# Altium footprint library 238pins_PcbLib1.PcbLib: 27 footprints (part 2 of 2)
Each footprint in its own frame and in the unit in brackets; x right, y up, seen from the top. Pads: shape width x height; smd on the part's side, far side on the other; paste and mask are expansions set on the pad; w line width, h text height; cw(c..) or ccw(c..) is an arc to the next point about the centre after c.
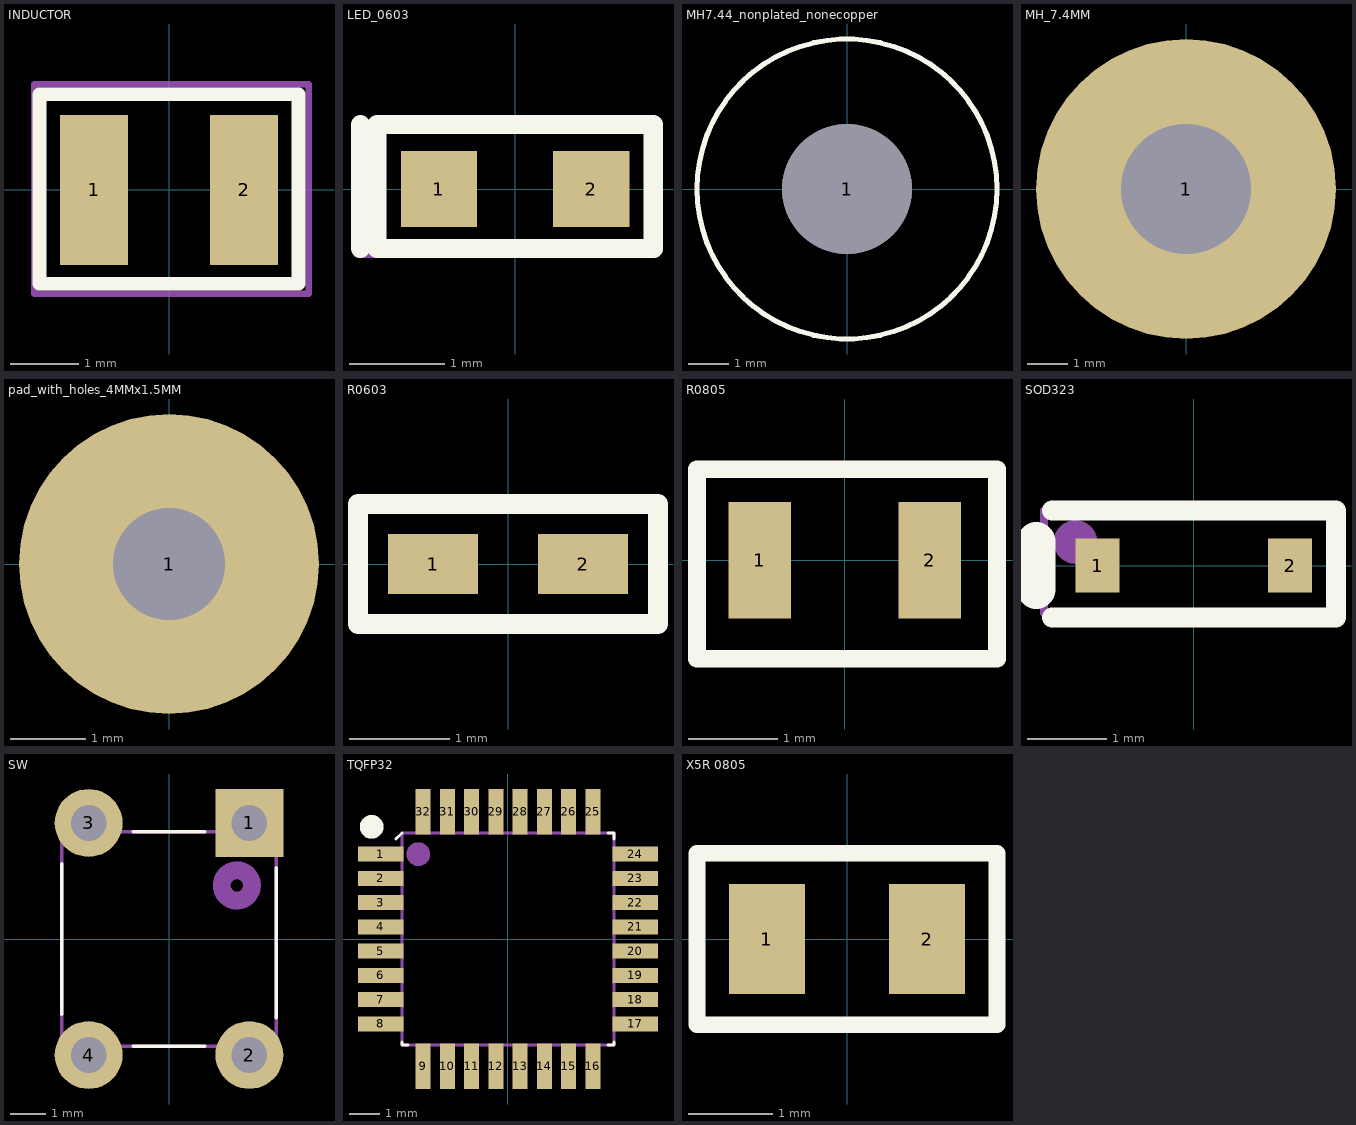
[diagram p1: the footprints below, top view; thin cyan lines are the x and y axes]

## INDUCTOR [mm]
pads (2):
  rect 1x2.2 smd: 1(-1.1,0) 2(1.1,0)
Top Overlay:
  lines w0.2: -1.9,-1.375 -1.9,1.4 1.9,1.4 1.9,-1.375 -1.9,-1.375
Mechanical 29:
  lines w0.1: -1.975,-1.525 2.05,-1.525 2.05,1.55 -1.975,1.55 -1.975,-1.525
  text ".Designator" at -0.15,0.017 h0.5
3D body "IND_CIGT252010_SAM.step": height 0.99, standoff 0, extent -1.346,-1.105 1.346,1.105

## LED_0603 [mm]
pads (2):
  rect 0.8x0.8 smd: 1(-0.8,0) 2(0.8,0)
Top Overlay:
  lines w0.2: -1.625,-0.625 -1.625,0.675 ; -1.45,-0.625 -1.45,0.675 -0.725,0.675 0.725,0.675 1.45,0.675 1.45,-0.625 -1.45,-0.625
Mechanical 29:
  lines w0.1: -1.45,-0.675 -1.45,0.675 ; -1.45,-0.675 1.475,-0.675 1.5,-0.65 1.5,0.675 -1.45,0.675 ; -1.45,-0.675 -1.65,-0.675 -1.65,0.675 -1.45,0.675 ; -1.45,0.675 -1.45,0.675
  text ".Designator" at -0.946,-0.096 h0.52
3D body "sml-e12d8wt86.stp": height 0.36, standoff 0, extent -0.8,-0.4 0.8,0.4

## MH7.44_nonplated_nonecopper [mm]
pads (1):
  round 3.2 hole 3.2 unplated: 1(0,0)
Top Overlay:
  circle w0.127: c0,0 r3.7

## MH_7.4MM [mm]
pads (1):
  round 7.4 hole 3.2: 1(0,0)

## pad_with_holes_4MMx1.5MM [mm]
pads (1):
  round 4 hole 1.5: 1(0,0)

## R0603 [mm]
pads (2):
  rect 0.9x0.6 smd: 1(-0.75,0) 2(0.75,0)
Top Overlay:
  lines w0.2: -1.5,-0.6 1.5,-0.6 1.5,0.6 -1.5,0.6 -1.5,-0.6
Mechanical 29:
  lines w0.1: -1.5,-0.6 1.5,-0.6 1.5,0.6 -1.5,0.6 -1.5,-0.6
  text ".Designator" at -0.3,-0.133 h0.5
3D body "CG0603MLC-05E.step": height 0.56, standoff 0.01, extent -0.8,-0.4 0.8,0.4

## R0805 [mm]
pads (2):
  rect 0.7x1.3 smd: 1(-0.95,0) 2(0.95,0)
Top Overlay:
  lines w0.2: -1.651,-1.103 -1.651,1.016 -0.453,1.016 1.702,1.016 1.702,-1.103 -1.448,-1.103 -1.651,-1.103
Mechanical 29:
  lines w0.1: -1.65,-1.1 1.675,-1.1 1.7,-1.075 1.7,1 1.675,0.975 -1.65,0.975 -1.65,-1.1
  text ".Designator" at -0.1,-0.108 h0.5
3D body "User Library-Chip Resistor2.step": height 0.71, standoff 0.01, extent -0.984,-0.6 1.016,0.6

## SOD323 [mil]
pads (2):
  rect 22x27 smd: 1(-48,0) 2(48,0)
Top Overlay:
  lines w10: -70.87,-25.9 70.87,-25.9 70.87,27.56 -70.87,27.56
  lines w19.68: -78.74,-11.81 -78.74,11.81
Mechanical 29:
  circle w10.63: c-59.06,11.81 r5.57
  lines w3.94: -74.8,-23.62 -74.8,27.56 70.87,27.56 70.87,-23.62 -74.8,-23.62
  text ".Designator" at -29.37,-6.75 h20.63
3D body "User Library-SOD323.step": height 39.48, standoff 0.5, extent -49.21,-23.62 49.22,25.59

## SW [mm]
pads (4):
  rect 1.9x1.9 hole 1: 1(2.25,3.25)
  round 1.9 hole 1: 2(2.25,-3.25) 3(-2.25,3.25) 4(-2.25,-3.25)
Top Overlay:
  lines w0.1: -3,-2.1 -3,2.1 ; -1,-3 1,-3 ; -1,3 1,3 ; 3,-2.2 3,2
Mechanical 29:
  circle w0.5: c1.9,1.5 r0.424
  lines w0.1: -3,-3 3,-3 3,3 -3,3 -3,-3
  text ".Designator" at 0.313,-1.046 h1
3D body "User Library-FSM4JLH(1825910-5).step": height 5, standoff -3.51, extent -2.995,-3.9 2.995,3.9

## TQFP32 [mm]
pads (32):
  rect 1.5x0.5 smd: 1(-4.2,2.8) 2(-4.2,2) 3(-4.2,1.2) 4(-4.2,0.4) 5(-4.2,-0.4) 6(-4.2,-1.2) 7(-4.2,-2) 8(-4.2,-2.8) 17(4.2,-2.8) 18(4.2,-2) 19(4.2,-1.2) 20(4.2,-0.4) 21(4.2,0.4) 22(4.2,1.2) 23(4.2,2) 24(4.2,2.8)
  rect 0.5x1.5 smd: 9(-2.8,-4.2) 10(-2,-4.2) 11(-1.2,-4.2) 12(-0.4,-4.2) 13(0.4,-4.2) 14(1.2,-4.2) 15(2,-4.2) 16(2.8,-4.2) 25(2.8,4.2) 26(2,4.2) 27(1.2,4.2) 28(0.4,4.2) 29(-0.4,4.2) 30(-1.2,4.2) 31(-2,4.2) 32(-2.8,4.2)
Top Overlay:
  circle w0.5: c-4.5,3.7 r0.141
  lines w0.1: -3.7,3.3 -3.5,3.5 ; -3.5,-3.4 -3.5,-3.5 -3.3,-3.5 ; 3.3,-3.5 3.5,-3.5 3.5,-3.4 ; 3.3,3.5 3.5,3.5 3.5,3.3
Mechanical 29:
  circle w0.5: c-2.959,2.8 r0.141
  lines w0.1: -3.5,-3.5 3.5,-3.5 3.5,3.5 -3.5,3.5 -3.5,-3.5
  text ".Designator" at -3.046,-0.338 h1.52
3D body "User Library-tqfp32.step": height 1.2, standoff 0, extent -4.599,-4.599 4.6,4.599

## X5R 0805 [mm]
pads (2):
  rect 0.9x1.3 smd: 1(-0.95,0) 2(0.95,0)
Top Overlay:
  lines w0.2: -1.778,-1.016 1.778,-1.016 1.778,1.016 -1.778,1.016 -1.778,-1.016
Mechanical 29:
  lines w0.1: -1.778,-1.016 1.778,-1.016 1.778,1.016 -1.778,1.016 -1.778,-1.016
  text ".Designator" at -0.889,-0.317 h1.02
3D body "CAPC2012X95N EIA 0805.step": height 0.96, standoff 0.01, extent -1,-0.6 1,0.6